# EAGLE library part 87438-08 (library con-molex-models)
Wire-to-Board 1.50mm (.059") Pitch Header - Right Angle, SMT, Shrouded Source: http://www.molex.com/product/micro/87438.html
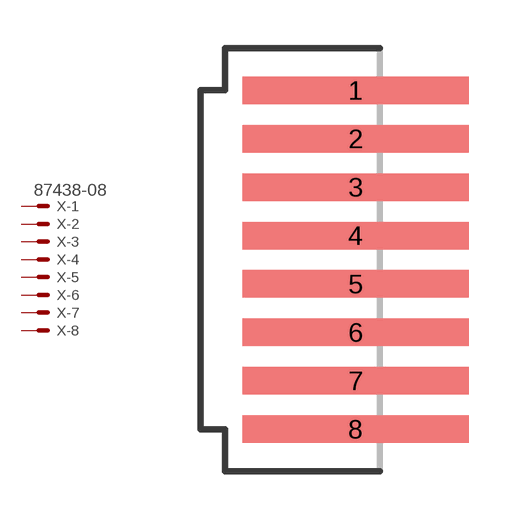
[diagram p228: symbol with the pads of 87438-08; footprint 87438-08]

Designator prefix X; gates -1=MV -2=M -3=M -4=M -5=M -6=M -7=M -8=M

## 87438-08 (MF: MOLEX; OC_FARNELL: 1756939; OC_NEWARK: unknown)  [87438-08]
1  -1:S  pas
2  -2:S  pas
3  -3:S  pas
4  -4:S  pas
5  -5:S  pas
6  -6:S  pas
7  -7:S  pas
8  -8:S  pas

## Footprint 87438-08 (pad centres in mm)
1.50mm Pitch Pico-SPOX™ Wire-to-Board Header, Surface Mount, Right Angle, Shrouded, Nylon, 8 Circuits, Embossed Tape on Reel, Beige Datasheet <http://www.molex.com/pdm_docs/sd/874380843_sd.pdf>
smd 7 x 0.85: 1 0,5.25; 2 0,3.75; 3 0,2.25; 4 0,0.75; 5 0,-0.75; 6 0,-2.25; 7 0,-3.75; 8 0,-5.25